# Altium footprint library Diode_DB2J31700L_2-PIN.PcbLib: 1 footprints
Each footprint in its own frame and in the unit in brackets; x right, y up, seen from the top. Pads: shape width x height; smd on the part's side, far side on the other; paste and mask are expansions set on the pad; w line width, h text height; cw(c..) or ccw(c..) is an arc to the next point about the centre after c.
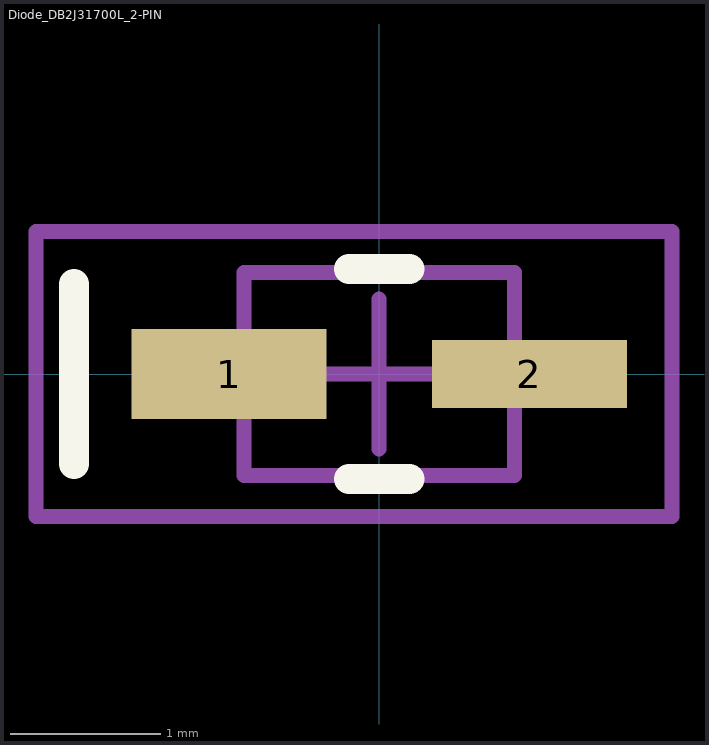
[diagram p0: the footprint, top view; thin cyan lines are the x and y axes]

## Diode_DB2J31700L_2-PIN [mm]
height 0.8
pads (2):
  rect 1.3x0.6 smd: 1(-1,0)
  rect 1.3x0.45 smd: 2(1,0)
Top Overlay:
  lines w0.2: -2.032,-0.6 -2.032,0.6 ; -0.2,-0.7 0.2,-0.7 ; -0.2,0.7 0.2,0.7
Mechanical 13:
  lines w0.1: -0.9,-0.675 -0.9,0.675 0.9,0.675 0.9,-0.675 -0.9,-0.675
Mechanical 15:
  lines w0.1: -0.5,0 0.5,0 ; 0,-0.5 0,0.5 ; -2.286,-0.95 -2.286,0.95 1.95,0.95 1.95,-0.95 -2.286,-0.95
3D body: height 0.8, standoff 0, extent -0.9,-0.675 0.9,0.675